# Altium footprint library AQM0802ARNGBW.PcbLib: 1 footprints
Each footprint in its own frame and in the unit in brackets; x right, y up, seen from the top. Pads: shape width x height; smd on the part's side, far side on the other; paste and mask are expansions set on the pad; w line width, h text height; cw(c..) or ccw(c..) is an arc to the next point about the centre after c.
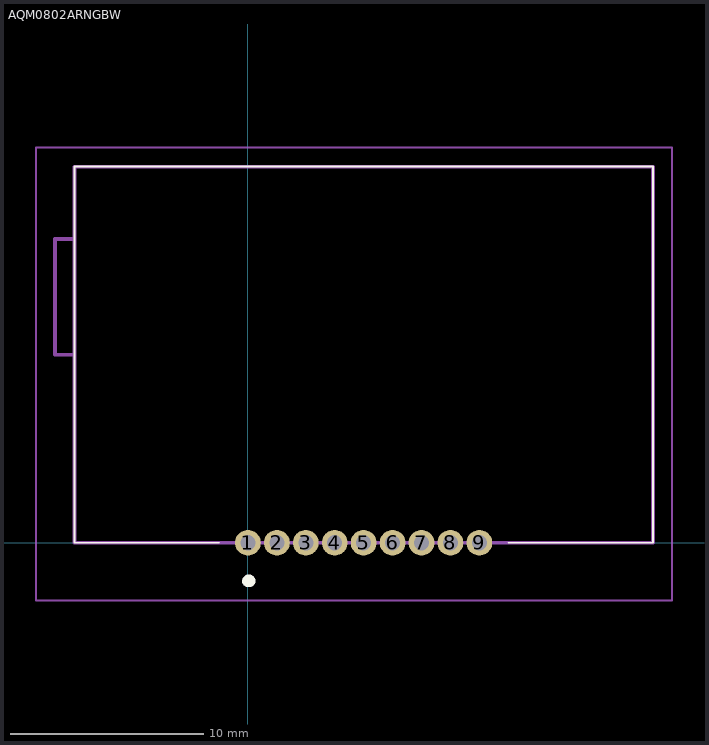
[diagram p0: the footprint, top view; thin cyan lines are the x and y axes]

## AQM0802ARNGBW [mm]
pads (9):
  round 1.337 hole 0.78: 1(0,0) 2(1.5,0) 3(3,0) 4(4.5,0) 5(6,0) 6(7.5,0) 7(9,0) 8(10.5,0) 9(12,0)
Top Overlay:
  lines w0.1: -1.5,0 -9,0 -9,19.5 21,19.5 21,0 13.5,0
  lines w0.6: 0.1,-2 0,-2 cw(c0.05,-2) 0.1,-2 ; 0.1,-2 0.1,-2
Mechanical 15:
  lines w0.2: -9,9.75 -10,9.75 -10,15.75 -9,15.75 ; -9,0 21,0 21,19.5 -9,19.5 -9,0
Mechanical 20:
  lines w0.1: -11,-3 22,-3 22,20.5 -11,20.5 -11,-3